# EAGLE library part 3V3-16 (library home-mind)
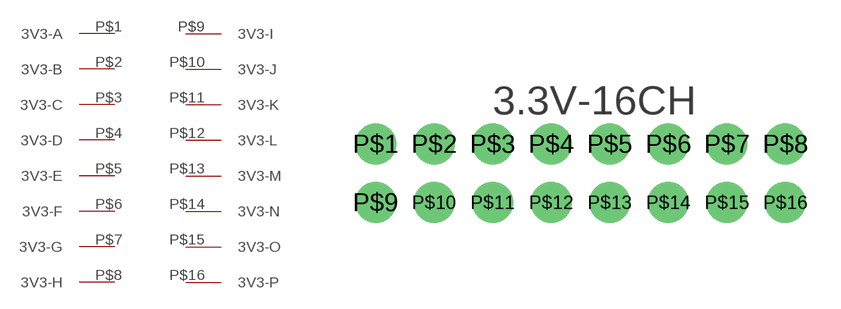
[diagram p1: symbol with the pads of 3.3V-16; footprint 3.3V-16]

Designator prefix -

## 3V3-16  [3.3V-16]
P$1  3V3-A
P$2  3V3-B
P$3  3V3-C
P$4  3V3-D
P$5  3V3-E
P$6  3V3-F
P$7  3V3-G
P$8  3V3-H
P$9  3V3-I
P$10  3V3-J
P$11  3V3-K
P$12  3V3-L
P$13  3V3-M
P$14  3V3-N
P$15  3V3-O
P$16  3V3-P

## Footprint 3.3V-16 (pad centres in mm)
drill 0.9 pad 1.778: P$1 0,0; P$2 2.54,0; P$3 5.08,0; P$4 7.62,0; P$5 10.16,0; P$6 12.7,0; P$7 15.24,0; P$8 17.78,0; P$9 0,-2.54; P$10 2.54,-2.54; P$11 5.08,-2.54; P$12 7.62,-2.54; P$13 10.16,-2.54; P$14 12.7,-2.54; P$15 15.24,-2.54; P$16 17.78,-2.54